# EAGLE library part ADUM1201 (library Public)
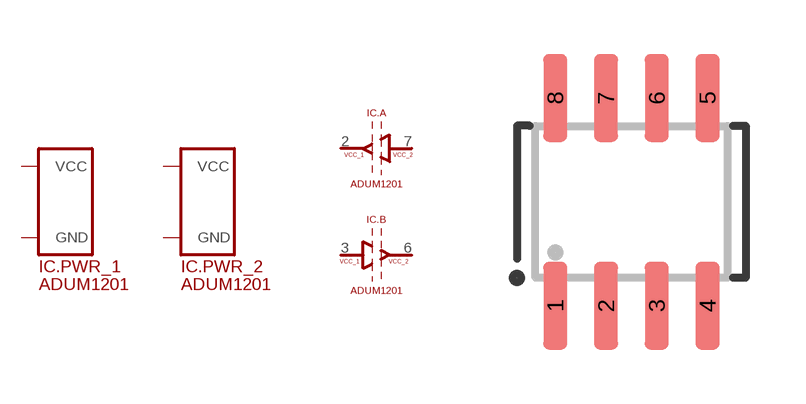
[diagram p50: symbol with the pads of SO8; footprint SO8]

Designator prefix IC; gates .PWR_1=SUPPLY_VCC/GND .PWR_2=SUPPLY_VCC/GND .A=ISOLATOR_VCC2_TO_VCC1 .B=ISOLATOR_VCC1_TO_VCC2

## ADUM1201  [SO8]
1  .PWR_1:VCC
2  .A:OUT
3  .B:IN
4  .PWR_1:GND
5  .PWR_2:GND
6  .B:OUT
7  .A:IN
8  .PWR_2:VCC

## Footprint SO8 (pad centres in mm)
smd 0.6 x 2.2: 1 -1.905,-2.6; 2 -0.635,-2.6; 3 0.635,-2.6; 4 1.905,-2.6; 5 1.905,2.6; 6 0.635,2.6; 7 -0.635,2.6; 8 -1.905,2.6